# Altium schematic symbol library Soil_Moisture_Sensor.SchLib: 1 symbol
Pins are listed as number, name and electrical type; pins without a type are passive.

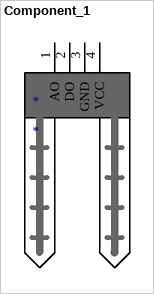
[diagram p0: symbol Component_1]

## Component_1
designator *
pins: 1 AO, 2 DO, 3 GND, 4 VCC